# Altium schematic symbol library M24C08-FMH6TG.SchLib: 1 symbol
Pins are listed as number, name and electrical type; pins without a type are passive.

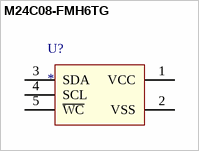
[diagram p0: symbol M24C08-FMH6TG]

## M24C08-FMH6TG
designator U?
IC EEPROM 8K I2C 400KHZ 5UFDFPN / Manufacturer PN: M24C08-FMH6TG
footprint UFDFPN5
pins: 1 VCC, 2 VSS, 3 SDA, 4 SCL, 5 ~{WC}